# Altium footprint library XTAL 3.2x2.5mm.PcbLib: 1 footprints
Each footprint in its own frame and in the unit in brackets; x right, y up, seen from the top. Pads: shape width x height; smd on the part's side, far side on the other; paste and mask are expansions set on the pad; w line width, h text height; cw(c..) or ccw(c..) is an arc to the next point about the centre after c.
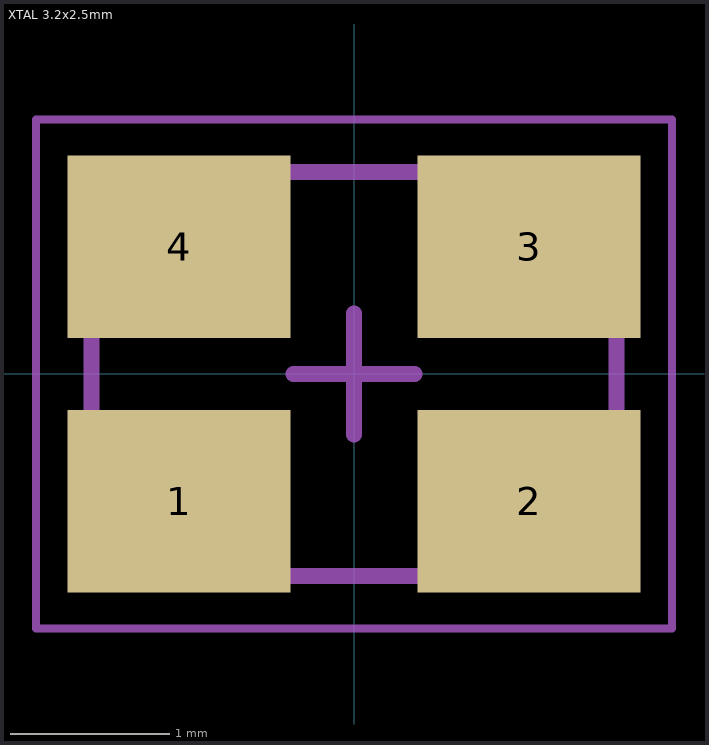
[diagram p0: the footprint, top view; thin cyan lines are the x and y axes]

## XTAL 3.2x2.5mm [mm]
pads (4):
  rect 1.4x1.15 smd paste-0.1: 1(-1.1,-0.8) 2(1.1,-0.8) 3(1.1,0.8) 4(-1.1,0.8)
Mechanical 1:
  lines w0.1: -1.651,-1.27 1.651,-1.27 1.651,1.27 -1.651,1.27 -1.651,-1.27
  text ".Designator" at -1.399,-0.166 h0.65
Mechanical 2:
  lines w0.05: -2,-1.6 2,-1.6 2,1.6 -2,1.6 -2,-1.6
  lines w0.1: -0.381,0 0.381,0 ; 0,-0.381 0,0.381
3D body "xtal.STEP": height 0.75, standoff 0, extent -1.6,-1.25 1.6,1.25